# Altium footprint library GPS_Neo6X.PcbLib: 1 footprints
Each footprint in its own frame and in the unit in brackets; x right, y up, seen from the top. Pads: shape width x height; smd on the part's side, far side on the other; paste and mask are expansions set on the pad; w line width, h text height; cw(c..) or ccw(c..) is an arc to the next point about the centre after c.
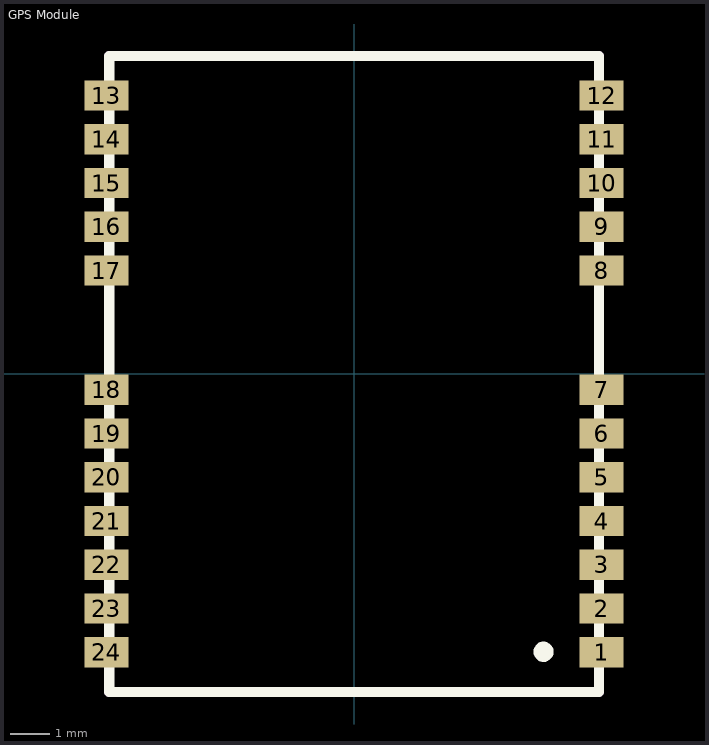
[diagram p0: the footprint, top view; thin cyan lines are the x and y axes]

## GPS Module [mm] "Neo-6M GPS Module"
pads (24):
  rect 1.1x0.76 smd: 1(6.227,-6.999) 2(6.227,-5.899) 3(6.227,-4.799) 4(6.227,-3.699) 5(6.227,-2.599) 6(6.227,-1.499) 7(6.227,-0.399) 8(6.227,2.601) 9(6.227,3.701) 10(6.227,4.801) 11(6.227,5.901) 12(6.227,7.001) 13(-6.227,7.001) 14(-6.227,5.901) 15(-6.227,4.801) 16(-6.227,3.701) 17(-6.227,2.601) 18(-6.227,-0.399) 19(-6.227,-1.499) 20(-6.227,-2.599) 21(-6.227,-3.699) 22(-6.227,-4.799) 23(-6.227,-5.899) 24(-6.227,-6.999)
Top Overlay:
  circle w0.254: c4.767,-6.986 r0.127
  lines w0.254: 6.162,-8 6.162,7.998 -6.155,7.998 -6.155,-8.002 6.164,-8.002
Mechanical 1:
  lines w0.254: -6.159,7.999 -6.159,-8.001 6.041,-8.001 ; -6.041,8.001 6.159,8.001 6.159,-7.999 6.159,-4.32
3D body "U Blok NEO-6M-0-001.step": height 2.4, standoff 0, extent -6.041,-7.999 6.159,8.001